# EAGLE library part ADUM6201 (library sjg-isolation)
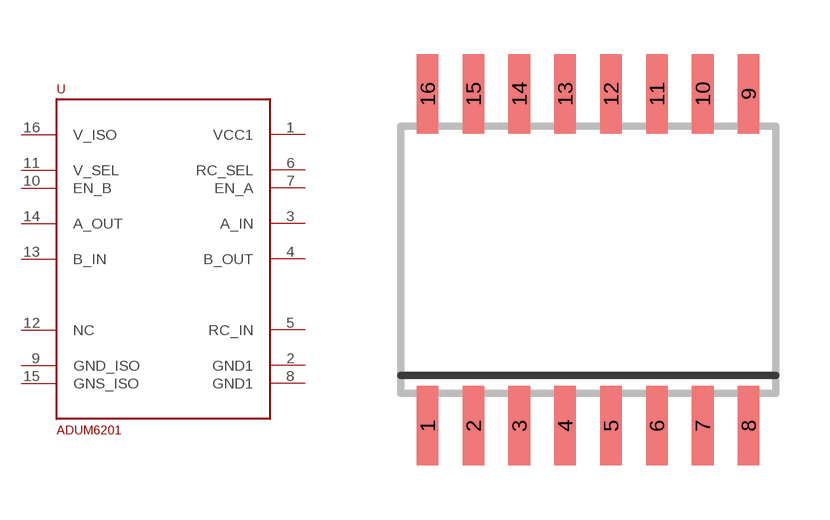
[diagram p0: symbol with the pads of SO-16DW; footprint SO-16DW]

Designator prefix -

## ADUM6201  [SO-16DW]
1  VCC1
2  GND1
3  A_IN
4  B_OUT
5  RC_IN
6  RC_SEL
7  EN_A
8  GND1
9  GND_ISO
10  EN_B
11  V_SEL
12  NC
13  B_IN
14  A_OUT
15  GNS_ISO
16  V_ISO

## Footprint SO-16DW (pad centres in mm)
Small Outline Integrated Circuit wide
smd 0.6 x 2.2: 1 -4.445,-4.6; 2 -3.175,-4.6; 3 -1.905,-4.6; 4 -0.635,-4.6; 5 0.635,-4.6; 6 1.905,-4.6; 7 3.175,-4.6; 8 4.445,-4.6; 9 4.445,4.6; 10 3.175,4.6; 11 1.905,4.6; 12 0.635,4.6; 13 -0.635,4.6; 14 -1.905,4.6; 15 -3.175,4.6; 16 -4.445,4.6